# Altium footprint library Connector.PcbLib: 7 footprints
Each footprint in its own frame and in the unit in brackets; x right, y up, seen from the top. Pads: shape width x height; smd on the part's side, far side on the other; paste and mask are expansions set on the pad; w line width, h text height; cw(c..) or ccw(c..) is an arc to the next point about the centre after c.
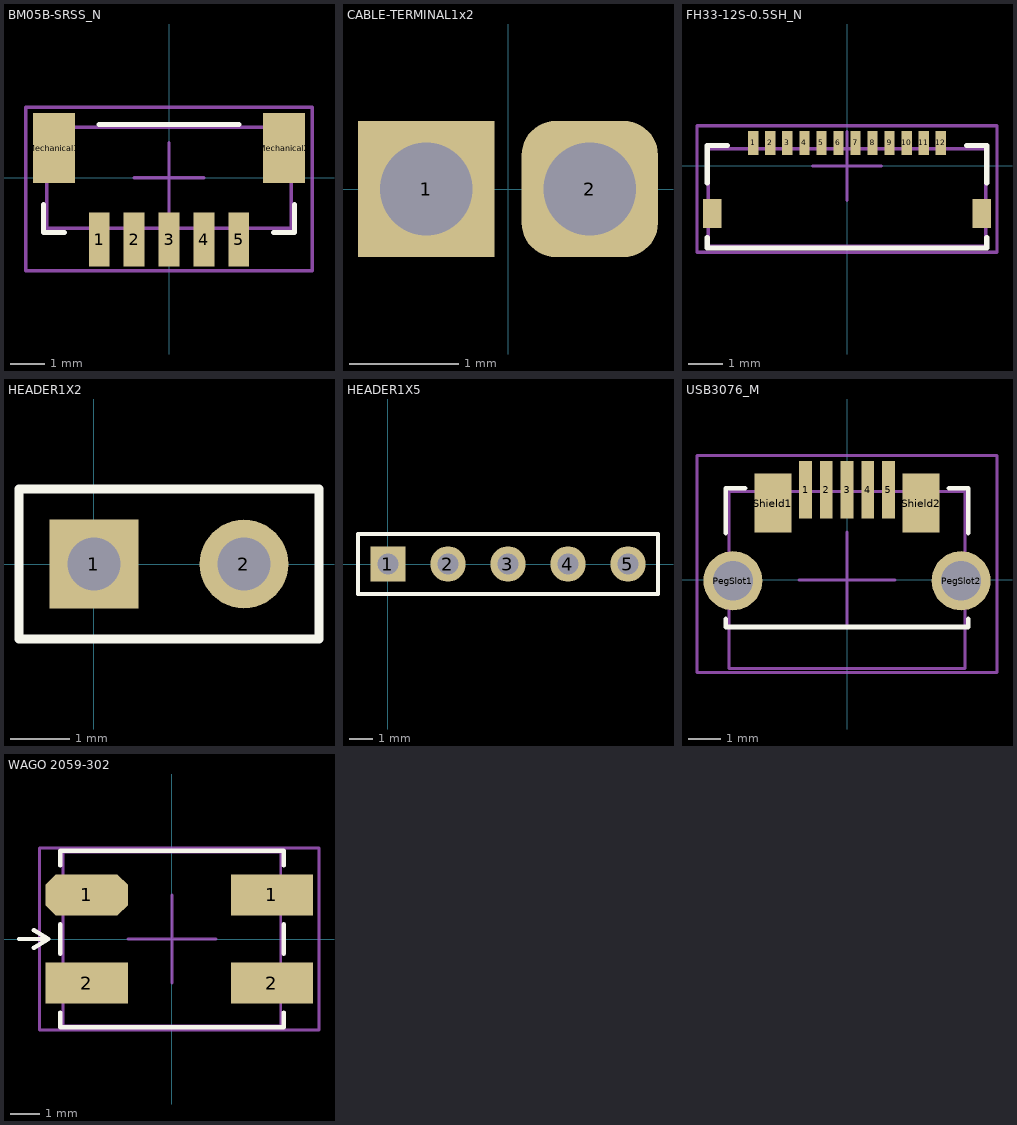
[diagram p0: the footprints below, top view; thin cyan lines are the x and y axes]

## BM05B-SRSS_N [mm] "SH Connector, 5-Leads, 1mm Pitch, Top Entry, IPC Medium Density"
height 4.25
pads (7):
  rect 0.6x1.55 smd: 1(-2,-1.775) 2(-1,-1.775) 3(0,-1.775) 4(1,-1.775) 5(2,-1.775)
  rect 1.2x2 smd: Mechanical1(-3.3,0.85) Mechanical2(3.3,0.85)
Top Overlay:
  lines w0.15: -3.6,-0.775 -3.6,-1.575 -3,-1.575 ; -2,1.525 2,1.525 ; 3,-1.575 3.6,-1.575 3.6,-0.775
Mechanical 13:
  lines w0.1: -3.5,-1.45 -3.5,1.45 3.5,1.45 3.5,-1.45 -3.5,-1.45
Mechanical 15:
  lines w0.1: -1,0 1,0 ; 0,-1 0,1 ; -4.1,-2.675 -4.1,2.025 4.1,2.025 4.1,-2.675 -4.1,-2.675
3D body: height 4.25, standoff 0, extent -3.5,-1.45 3.5,1.45

## CABLE-TERMINAL1x2 [mm] "Cable to board terminal, 1x2, 1.5mm pitch"
pads (2):
  rect 1.25x1.25 hole 0.85 mask+0.075: 1(-0.75,0)
  rrect50% 1.25x1.25 hole 0.85 mask+0.075: 2(0.75,0)

## FH33-12S-0.5SH_N [mm] "Flax flexible cable connector, 12-Leads, 0.5mm Pitch, Side entry, IPC medium density"
height 1.2
pads (14):
  rect 0.3x0.7 smd paste-0.025 mask+0.049: 1(-2.75,0.675) 2(-2.25,0.675) 3(-1.75,0.675) 4(-1.25,0.675) 5(-0.75,0.675) 6(-0.25,0.675) 7(0.25,0.675) 8(0.75,0.675) 9(1.25,0.675) 10(1.75,0.675) 11(2.25,0.675) 12(2.75,0.675)
  rect 0.55x0.85 smd: Mechanical1(-3.95,-1.4) Mechanical2(3.95,-1.4)
Top Overlay:
  lines w0.15: -4.1,-2.1 -4.1,-2.4 4.1,-2.4 4.1,-2.1 ; -4.1,-0.5 -4.1,0.6 -3.5,0.6 ; 3.5,0.6 4.1,0.6 4.1,-0.5
Mechanical 13:
  lines w0.1: -4.075,-2.35 -4.075,0.5 4.075,0.5 4.075,-2.35 -4.075,-2.35
Mechanical 15:
  lines w0.1: -1,0 1,0 ; 0,-1 0,1 ; -4.4,-2.525 4.4,-2.525 4.4,1.175 -4.4,1.175 -4.4,-2.525
3D body: height 1.3, standoff 0, extent -4.075,-2.35 4.075,0.5

## HEADER1X2 [mm] "Standard Header, 1x2, 2.54mm Pitch"
pads (2):
  rect 1.5x1.5 hole 0.9: 1(0,0)
  round 1.5 hole 0.9: 2(2.54,0)
Top Overlay:
  lines w0.15: -1.27,-1.27 3.81,-1.27 3.81,1.27 -1.27,1.27 -1.27,-1.27
Mechanical 13:
  lines w0.1: -1.27,-1.27 -1.27,1.27 3.81,1.27 3.81,-1.27 -1.27,-1.27
3D body: height 8.34, standoff -3.05, extent -1.27,-1.27 3.81,1.27

## HEADER1X5 [mm] "Standard Header, 1x5, 2.54mm Pitch"
pads (5):
  rect 1.5x1.5 hole 0.9: 1(0,0)
  round 1.5 hole 0.9: 2(2.54,0) 3(5.08,0) 4(7.62,0) 5(10.16,0)
Top Overlay:
  lines w0.15: -1.27,-1.27 -1.27,1.27 11.43,1.27 11.43,-1.27 -1.27,-1.27
Mechanical 13:
  lines w0.1: -1.27,-1.27 -1.27,1.27 11.43,1.27 11.43,-1.27 -1.27,-1.27
3D body: height 8.34, standoff -3.05, extent -1.27,-1.27 11.43,1.27

## USB3076_M [mm] "Micro USB B Receptacle, Horizontal, 0.65mm Pitch, IPC Low Density"
height 2.35
pads (9):
  rect 0.4x1.8 smd paste-0.025 mask+0.074: 1(-1.3,2.825) 2(-0.65,2.825) 3(0,2.825) 4(0.65,2.825) 5(1.3,2.825)
  round 1.85 hole 1.25: PegSlot1(-3.575,-0.025) PegSlot2(3.575,-0.025)
  rect 1.15x1.85 smd paste-0.025 mask+0.05: Shield1(-2.32,2.405) Shield2(2.32,2.405)
Top Overlay:
  lines w0.15: -3.8,-1.225 -3.8,-1.475 3.8,-1.475 3.8,-1.225 ; -3.8,1.475 -3.8,2.875 -3.2,2.875 ; 3.2,2.875 3.8,2.875 3.8,1.475
Mechanical 13:
  lines w0.1: -3.7,-2.775 3.7,-2.775 3.7,2.775 -3.7,2.775 -3.7,-2.775
Mechanical 15:
  lines w0.1: -1.5,0 1.5,0 ; 0,-1.5 0,1.5 ; -4.7,-2.9 4.7,-2.9 4.7,3.9 -4.7,3.9 -4.7,-2.9
3D body: height 2.66, standoff -1, extent -3.7,-2.775 3.7,2.775

## WAGO 2059-302 [mm] "Wire to Board Terminal, 2-Poles, 3mm Pitch"
height 2.7
pads (4):
  oct 2.8x1.4 smd: 1(-2.9,1.5)
  rect 2.8x1.4 smd: 1(3.4,1.5) 2(-2.9,-1.5) 2(3.4,-1.5)
Top Overlay:
  lines w0.15: -5.2,0 -4.2,0 ; -4.7,-0.3 -4.2,0 ; -4.7,0.3 -4.2,0 ; -3.8,-2.5 -3.8,-3 3.8,-3 3.8,-2.5 ; -3.8,-0.5 -3.8,0.5 ; -3.8,2.5 -3.8,3 3.8,3 3.8,2.5 ; 3.8,-0.5 3.8,0.5
Mechanical 13:
  lines w0.1: -3.7,-2.95 3.7,-2.95 3.7,2.95 -3.7,2.95 -3.7,-2.95
Mechanical 15:
  lines w0.1: -1.5,0 1.5,0 ; 0,-1.5 0,1.5 ; -4.5,-3.1 -4.5,3.1 5,3.1 5,-3.1 -4.5,-3.1
3D body: height 2.7, standoff 0, extent -3.7,-2.95 3.7,2.95